# EAGLE library part DAC8831 (library _mtvl_ic)
16-Bit, Ultra-Low Power, Voltage Output Digital to Analog Converter
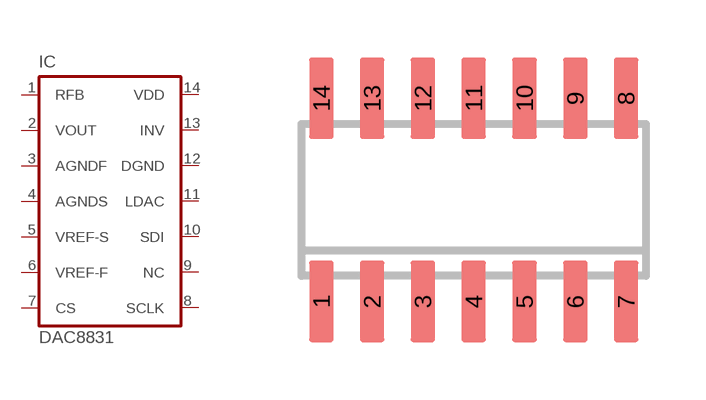
[diagram p36: symbol with the pads of SO-14_; footprint SO-14_]

Designator prefix IC

## DAC8831I  [SO-14_]
1  RFB
2  VOUT
3  AGNDF
4  AGNDS
5  VREF-S
6  VREF-F
7  CS
8  SCLK
9  NC
10  SDI
11  LDAC
12  DGND
13  INV
14  VDD

## Footprint SO-14_ (pad centres in mm)
Small Outline Narrow Plastic Gull Wing 150-mil body, package type SL
smd 0.61 x 2.032: 1 -3.81,-2.54; 2 -2.54,-2.54; 3 -1.27,-2.54; 4 0,-2.54; 5 1.27,-2.54; 6 2.54,-2.54; 7 3.81,-2.54; 8 3.81,2.54; 9 2.54,2.54; 10 1.27,2.54; 11 0,2.54; 12 -1.27,2.54; 13 -2.54,2.54; 14 -3.81,2.54